# Altium schematic symbol library Pot.SchLib: 2 symbols
Pins are listed as number, name and electrical type; pins without a type are passive.

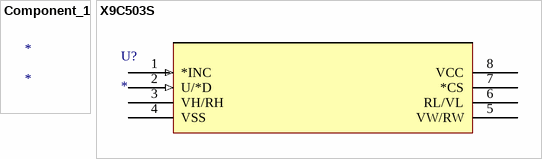
[diagram p0: symbols Component_1 to X9C503S]

## Component_1
designator *

## X9C503S
designator U?
Imported; Manufacturer_Part_Number: x9c503s; Vendor: Intersil; C: Copyright (C) 2015 Accelerated Designs. All rights reserved; Copyright: Copyright (C) 2015 Accelerated Designs. All rights reserved; Value: Value; Type: Type; RefDes: RefDes
footprint M8_15
pins: 1 *INC (in), 2 U/*D (in), 3 VH/RH, 4 VSS (power), 5 VW/RW, 6 RL/VL, 7 *CS, 8 VCC (power)